# EAGLE library part 4XISO_RESISTOR_NETWORK_2.54 (library ElectricNoodleBox)
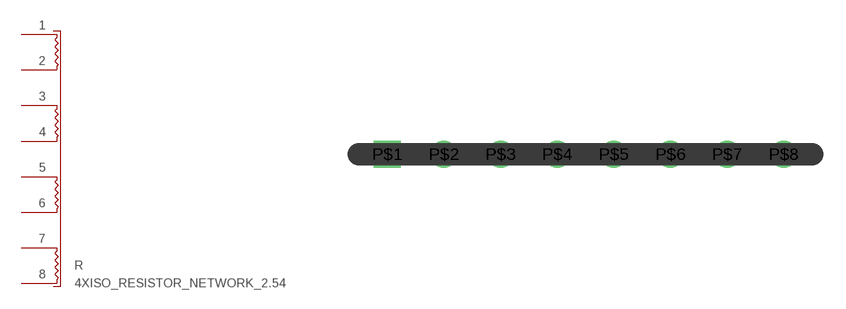
[diagram p13: symbol with the pads of 4_ISO_RES_NET_2.54; footprint 4_ISO_RES_NET_2.54]

Designator prefix R

## 4XISO_RESISTOR_NETWORK_2.54  [4_ISO_RES_NET_2.54]
P$1  P$1
P$2  P$2
P$3  P$3
P$4  P$4
P$5  P$5
P$6  P$6
P$7  P$7
P$8  P$8

## Footprint 4_ISO_RES_NET_2.54 (pad centres in mm)
drill 0.7 square: P$1 -8.89,0
drill 0.7: P$2 -6.35,0; P$3 -3.81,0; P$4 -1.27,0; P$5 1.27,0; P$6 3.81,0; P$7 6.35,0; P$8 8.89,0